# Altium footprint library IRLML6402.PcbLib: 1 footprints
Each footprint in its own frame and in the unit in brackets; x right, y up, seen from the top. Pads: shape width x height; smd on the part's side, far side on the other; paste and mask are expansions set on the pad; w line width, h text height; cw(c..) or ccw(c..) is an arc to the next point about the centre after c.
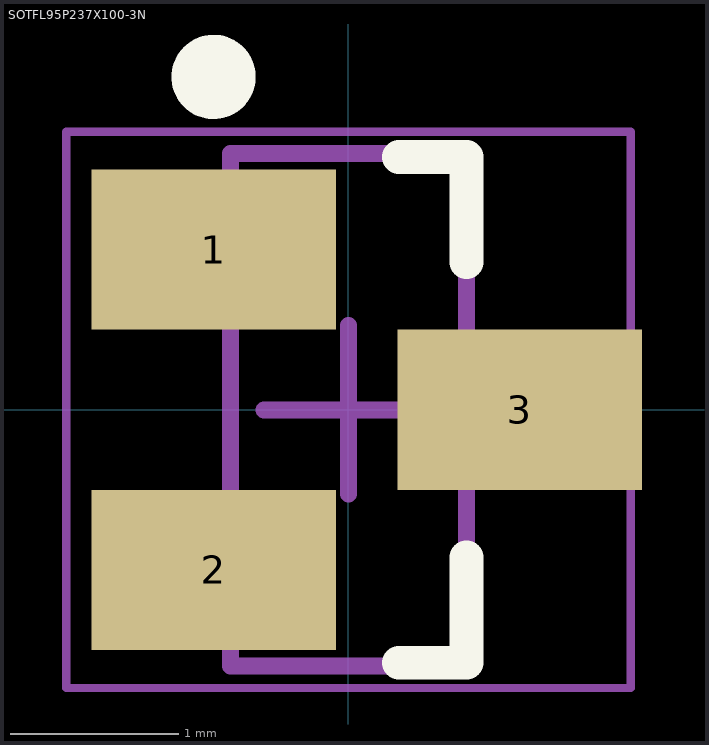
[diagram p0: the footprint, top view; thin cyan lines are the x and y axes]

## SOTFL95P237X100-3N [mm] "SOTFL, 3-Leads, Body 2,92x2,37mm, Pitch 0,95mm, IPC Medium Density"
height 1
pads (3):
  rect 1.45x0.95 smd: 1(-0.8,0.95) 2(-0.8,-0.95) 3(1.016,0)
Top Overlay:
  circle w0.25: c-0.8,1.975 r0.125
  lines w0.2: 0.3,-1.5 0.7,-1.5 0.7,-0.875 ; 0.3,1.5 0.7,1.5 0.7,0.875
Mechanical 13:
  lines w0.1: -0.7,-1.52 -0.7,1.52 0.7,1.52 0.7,-1.52 -0.7,-1.52
Mechanical 15:
  lines w0.05: -1.675,-1.65 -1.675,1.65 1.675,1.65 1.675,-1.65 -1.675,-1.65
  lines w0.1: -0.5,0 0.5,0 ; 0,-0.5 0,0.5
3D body: height 1.3, standoff 0, extent -1.476,-1.524 1.524,1.476